# Altium schematic symbol library Switches.SchLib: 8 symbols
Pins are listed as number, name and electrical type; pins without a type are passive.

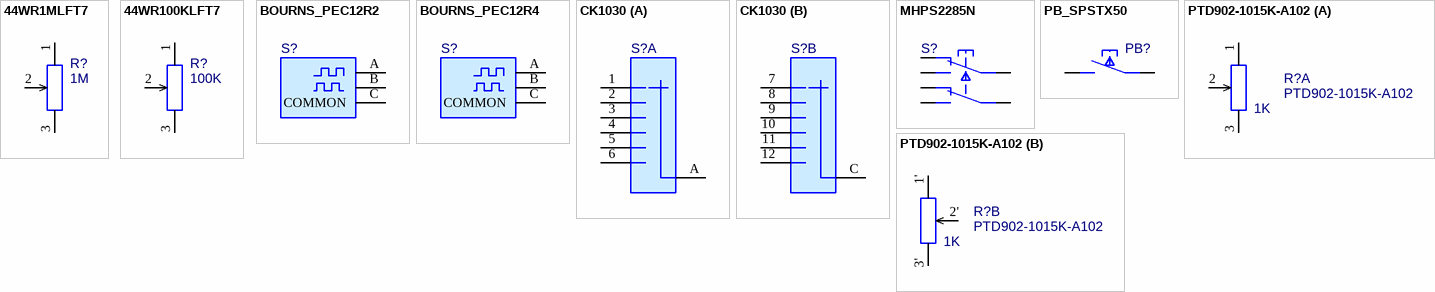
[diagram p0: symbols 44WR1MLFT7 to PTD902-1015K-A102]

## 44WR1MLFT7
designator R?  value 1M  (hidden comment: 44WR1MLFT7)
Trimmer Resistors - SMD 4MM Squ 1M 10%; Manufacturer 1: TT Electronics; Power Rating: 0.25W; ComponentLink1Description: Datasheet; ComponentLink1URL: http://bitechnologies.com/pdfs/44.pdf; Created: 2013-11-21; Last Updated: 2014-02-14; Manufacturer Part Number 1: 44WR1MLFT7; Supplier 1: Mouser; Supplier Part Number 1: 858-44WR1MLFT7; Tolerance: 10%; Mounting: Vertical
footprint MODEL44W (4mm Square Multiturn Surface Mount Cermet Trimming Potentiometer)
pins: 1, 2, 3

## 44WR100KLFT7
designator R?  value 100K  (hidden comment: 44WR100KLFT7)
Trimmer Resistors - SMD 4MM Squ 100K 10%; Manufacturer 1: TT Electronics; Power Rating: 0.25W; ComponentLink1Description: Datasheet; Created: 2014-07-24; Last Updated: 2014-07-24; Manufacturer Part Number 1: 44WR100KLFT7; Supplier 1: Mouser; Supplier Part Number 1: 858-44WR100KLFT7; Tolerance: 10%; Mounting: Vertical
footprint MODEL44W (4mm Square Multiturn Surface Mount Cermet Trimming Potentiometer)
pins: 1, 2, 3

## BOURNS_PEC12R2
designator S?, comment ENCODER  (value not drawn)
Rotary Encoder Quadrature output; Manufacturer 1: Bourns; Manufacturer Part Number 1: PEC12R-2017F-S0024; ComponentLink1Description: Datasheet; Created: 2014-08-25; Last Updated: 2014-08-25; Mounting: Horizontal; Supplier 1: Mouser; Supplier Part Number 1: 652-PEC12R-2017F-S24
footprint BOURNS_PEC12R2 (PEC12R - 12 mm Incremental Encoder Horizontal)
pins: A, B, C COMMON

## BOURNS_PEC12R4
designator S?, comment ENCODER  (value not drawn)
Rotary Encoder Quadrature output; Manufacturer 1: Bourns; Manufacturer Part Number 1: PEC12R-4017F-N0024; ComponentLink1Description: Datasheet; Created: 2014-08-31; Last Updated: 2014-08-31; Mounting: Horizontal; Supplier 1: Mouser; Supplier Part Number 1: 652-PEC12R-4017F-N24
footprint BOURNS_PEC12R4 (PEC12R - 12 mm Incremental Encoder Vertical)
pins: A, B, C COMMON

## CK1030
designator S?, comment Rotary Switch  (value not drawn)
Manufacturer 1: Lorlin; Manufacturer Part Number 1: CK1030; ComponentLink1Description: Datasheet; Created: 2015-04-21; Last Updated: 2015-04-21; Mounting: Vertical; Supplier 1: Mouser; Supplier Part Number 1: 10SM130
footprint CK1030
part A pins: 1, 2, 3, 4, 5, 6, A
part B pins: 7, 8, 9, 10, 11, 12, C

## MHPS2285N
designator S?, comment Push button  (value not drawn)
Manufacturer 1: Apem; Manufacturer Part Number 1: MHPS2285N; ComponentLink1Description: Datasheet; Created: 2014-08-31; Last Updated: 2014-08-31; Mounting: Vertical; Supplier 1: Mouser; Supplier Part Number 1: 642-MHPS2285N
footprint MHPS2285 (Apem MHPS2285)
pins: 1 P2T1, 2 P2T2, 3 P2, 4 P1T1, 5 P1T2, 6 P1

## PB_SPSTX50
designator PB?, comment Pushbutton  (value not drawn)
footprint SW_1571563-1 (TE Connectivity / Alcoswitch)
pins: 1,2 1, 3,4 3

## PTD902-1015K-A102
designator R?  value 1K
Dual Potmeter 1K AUDIO; Manufacturer 1: Bourns; Power Rating: 0.025W; Tolerance: 10%; ComponentLink1Description: Datasheet; ComponentLink1URL: http://www.mouser.com/ds/2/54/ptd90-35260.pdf; Created: 2013-11-19; Last Updated: 2014-02-14; Manufacturer Part Number 1: PTD902-1015K-A102; Supplier 1: Mouser; Supplier Part Number 1: 652-PTD902-1015KA102; Mounting: Horizontal
footprint PTD902-1015K-A102
part A pins: 1, 2, 3
part B pins: 1', 2', 3'